# EAGLE library part MSP430FR698X(1) (library tagps)
Ultra-Low-Power MCU Source: http://www.ti.com/lit/ds/symlink/msp430fr6989.pdf
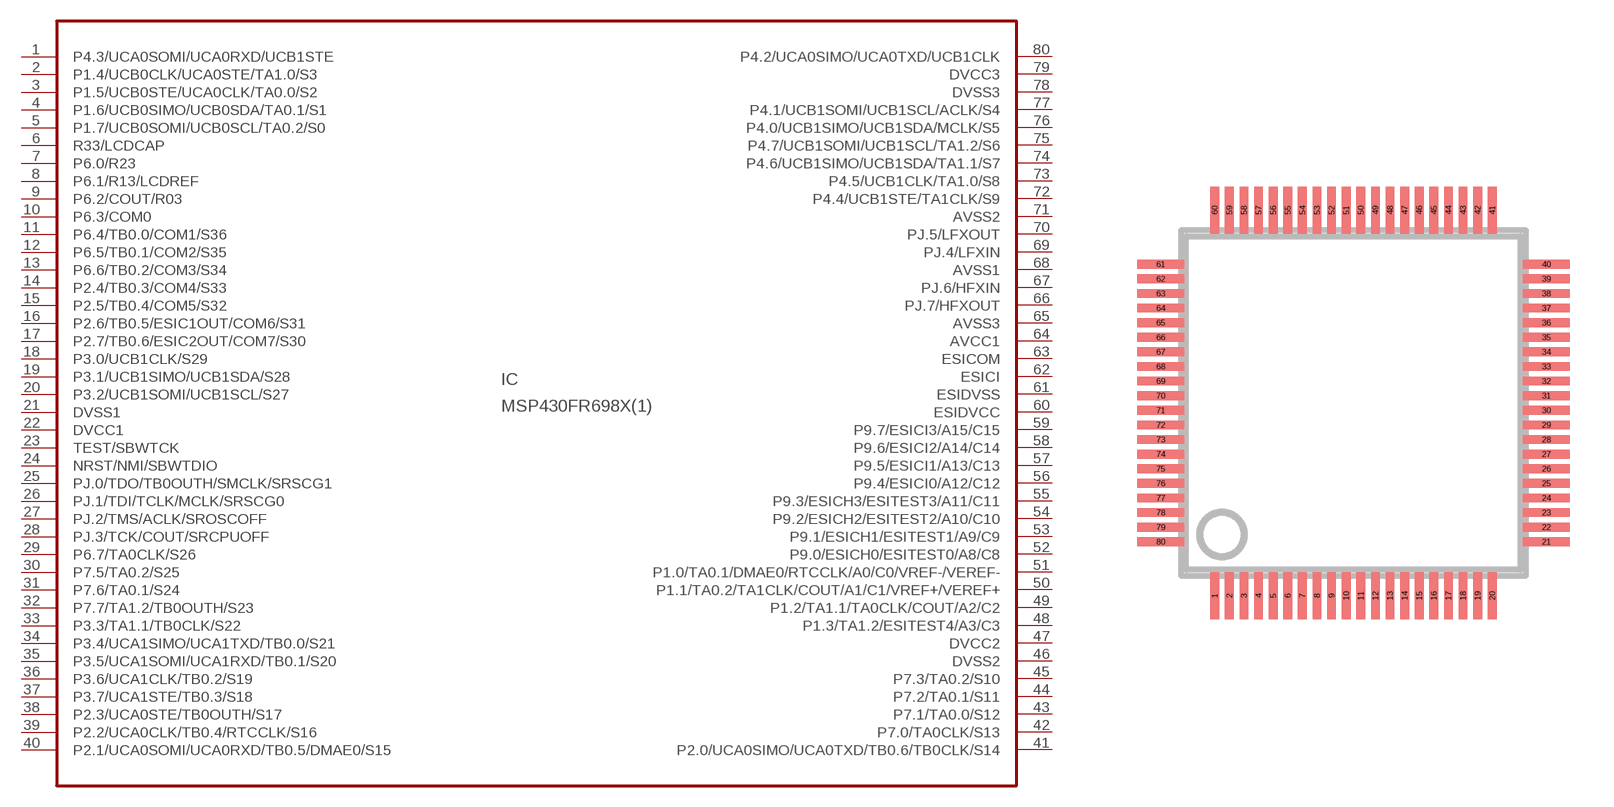
[diagram p0: symbol with the pads of PN_S-PQFP-G80; footprint PN_S-PQFP-G80]

Designator prefix IC

## MSP430FR698X(1)80-PIN_PN  [PN_S-PQFP-G80]
1  P4.3/UCA0SOMI/UCA0RXD/UCB1STE
2  P1.4/UCB0CLK/UCA0STE/TA1.0/S3
3  P1.5/UCB0STE/UCA0CLK/TA0.0/S2
4  P1.6/UCB0SIMO/UCB0SDA/TA0.1/S1
5  P1.7/UCB0SOMI/UCB0SCL/TA0.2/S0
6  R33/LCDCAP
7  P6.0/R23
8  P6.1/R13/LCDREF
9  P6.2/COUT/R03
10  P6.3/COM0
11  P6.4/TB0.0/COM1/S36
12  P6.5/TB0.1/COM2/S35
13  P6.6/TB0.2/COM3/S34
14  P2.4/TB0.3/COM4/S33
15  P2.5/TB0.4/COM5/S32
16  P2.6/TB0.5/ESIC1OUT/COM6/S31
17  P2.7/TB0.6/ESIC2OUT/COM7/S30
18  P3.0/UCB1CLK/S29
19  P3.1/UCB1SIMO/UCB1SDA/S28
20  P3.2/UCB1SOMI/UCB1SCL/S27
21  DVSS1  pwr
22  DVCC1  pwr
23  TEST/SBWTCK  out
24  NRST/NMI/SBWTDIO
25  PJ.0/TDO/TB0OUTH/SMCLK/SRSCG1
26  PJ.1/TDI/TCLK/MCLK/SRSCG0
27  PJ.2/TMS/ACLK/SROSCOFF
28  PJ.3/TCK/COUT/SRCPUOFF
29  P6.7/TA0CLK/S26
30  P7.5/TA0.2/S25
31  P7.6/TA0.1/S24
32  P7.7/TA1.2/TB0OUTH/S23
33  P3.3/TA1.1/TB0CLK/S22
34  P3.4/UCA1SIMO/UCA1TXD/TB0.0/S21
35  P3.5/UCA1SOMI/UCA1RXD/TB0.1/S20
36  P3.6/UCA1CLK/TB0.2/S19
37  P3.7/UCA1STE/TB0.3/S18
38  P2.3/UCA0STE/TB0OUTH/S17
39  P2.2/UCA0CLK/TB0.4/RTCCLK/S16
40  P2.1/UCA0SOMI/UCA0RXD/TB0.5/DMAE0/S15
41  P2.0/UCA0SIMO/UCA0TXD/TB0.6/TB0CLK/S14
42  P7.0/TA0CLK/S13
43  P7.1/TA0.0/S12
44  P7.2/TA0.1/S11
45  P7.3/TA0.2/S10
46  DVSS2  pwr
47  DVCC2  pwr
48  P1.3/TA1.2/ESITEST4/A3/C3
49  P1.2/TA1.1/TA0CLK/COUT/A2/C2
50  P1.1/TA0.2/TA1CLK/COUT/A1/C1/VREF+/VEREF+
51  P1.0/TA0.1/DMAE0/RTCCLK/A0/C0/VREF-/VEREF-
52  P9.0/ESICH0/ESITEST0/A8/C8
53  P9.1/ESICH1/ESITEST1/A9/C9
54  P9.2/ESICH2/ESITEST2/A10/C10
55  P9.3/ESICH3/ESITEST3/A11/C11
56  P9.4/ESICI0/A12/C12
57  P9.5/ESICI1/A13/C13
58  P9.6/ESICI2/A14/C14
59  P9.7/ESICI3/A15/C15
60  ESIDVCC  pwr
61  ESIDVSS  pwr
62  ESICI
63  ESICOM
64  AVCC1  pwr
65  AVSS3  pwr
66  PJ.7/HFXOUT
67  PJ.6/HFXIN
68  AVSS1  pwr
69  PJ.4/LFXIN
70  PJ.5/LFXOUT
71  AVSS2  pwr
72  P4.4/UCB1STE/TA1CLK/S9
73  P4.5/UCB1CLK/TA1.0/S8
74  P4.6/UCB1SIMO/UCB1SDA/TA1.1/S7
75  P4.7/UCB1SOMI/UCB1SCL/TA1.2/S6
76  P4.0/UCB1SIMO/UCB1SDA/MCLK/S5
77  P4.1/UCB1SOMI/UCB1SCL/ACLK/S4
78  DVSS3  pwr
79  DVCC3  pwr
80  P4.2/UCA0SIMO/UCA0TXD/UCB1CLK

## Footprint PN_S-PQFP-G80 (pad centres in mm)
QFP80 Source: www.ti.com .. msp430f5437.pdf
smd 0.3 x 1.6: 1 -4.75,-6.6; 2 -4.25,-6.6; 3 -3.75,-6.6; 4 -3.25,-6.6; 5 -2.75,-6.6; 6 -2.25,-6.6; 7 -1.75,-6.6; 8 -1.25,-6.6; 9 -0.75,-6.6; 10 -0.25,-6.6; 11 0.25,-6.6; 12 0.75,-6.6; 13 1.25,-6.6; 14 1.75,-6.6; 15 2.25,-6.6; 16 2.75,-6.6; 17 3.25,-6.6; 18 3.75,-6.6; 19 4.25,-6.6; 20 4.75,-6.6; 41 4.75,6.6; 42 4.25,6.6; 43 3.75,6.6; 44 3.25,6.6; 45 2.75,6.6; 46 2.25,6.6; 47 1.75,6.6; 48 1.25,6.6; 49 0.75,6.6; 50 0.25,6.6; 51 -0.25,6.6; 52 -0.75,6.6; 53 -1.25,6.6; 54 -1.75,6.6; 55 -2.25,6.6; 56 -2.75,6.6; 57 -3.25,6.6; 58 -3.75,6.6; 59 -4.25,6.6; 60 -4.75,6.6
smd 1.6 x 0.3: 21 6.6,-4.75; 22 6.6,-4.25; 23 6.6,-3.75; 24 6.6,-3.25; 25 6.6,-2.75; 26 6.6,-2.25; 27 6.6,-1.75; 28 6.6,-1.25; 29 6.6,-0.75; 30 6.6,-0.25; 31 6.6,0.25; 32 6.6,0.75; 33 6.6,1.25; 34 6.6,1.75; 35 6.6,2.25; 36 6.6,2.75; 37 6.6,3.25; 38 6.6,3.75; 39 6.6,4.25; 40 6.6,4.75; 61 -6.6,4.75; 62 -6.6,4.25; 63 -6.6,3.75; 64 -6.6,3.25; 65 -6.6,2.75; 66 -6.6,2.25; 67 -6.6,1.75; 68 -6.6,1.25; 69 -6.6,0.75; 70 -6.6,0.25; 71 -6.6,-0.25; 72 -6.6,-0.75; 73 -6.6,-1.25; 74 -6.6,-1.75; 75 -6.6,-2.25; 76 -6.6,-2.75; 77 -6.6,-3.25; 78 -6.6,-3.75; 79 -6.6,-4.25; 80 -6.6,-4.75